# EAGLE library part AT27C256R-70PU (library SamacSys_Parts)
MICROCHIP - AT27C256R-70PU - EPROM, One Time Programmable, 70 ns, 32K x 8bit, 256 Kbit, 4.5 V to 5.5 V, DIP-28 Source: Datasheet <http://ww1.microchip.com/downloads/en/DeviceDoc/doc0014.pdf>
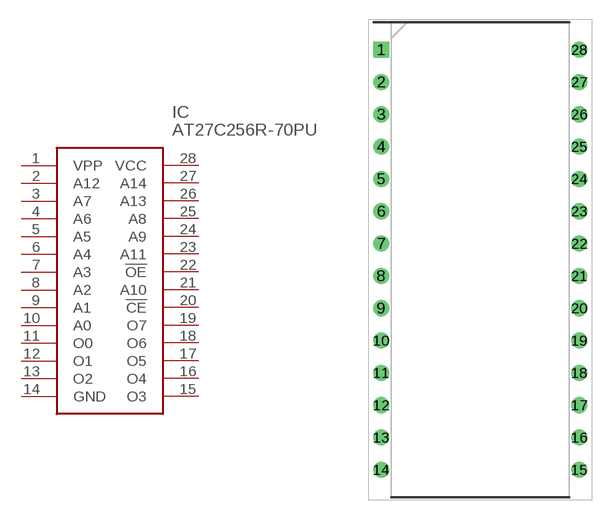
[diagram p198: symbol with the pads of DIP1556W56P254L3702H483Q28N; footprint DIP1556W56P254L3702H483Q28N]

Designator prefix IC

## AT27C256R-70PU (DESCRIPTION: MICROCHIP - AT27C256R-70PU - EPROM, One Time Programmable, 70 ns, 32K x 8bit, 256 Kbit, 4.5 V to 5.5 V, DIP-28; HEIGHT: 4.826mm; MANUFACTURER_NAME: Microchip; MANUFACTURER_PART_NUMBER: AT27C256R-70PU; MOUSER_PART_NUMBER: 556-AT27C256R70PU; MOUSER_PRICE-STOCK: https://www.mouser.co.uk/ProductDetail/Microchip-Technology-Atmel/AT27C256R-70PU?qs=lURXKZrvvXerj2LFnnLrrA%3D%3D)  [DIP1556W56P254L3702H483Q28N]
1  VPP
2  A12
3  A7
4  A6
5  A5
6  A4
7  A3
8  A2
9  A1
10  A0
11  O0
12  O1
13  O2
14  GND
15  O3
16  O4
17  O5
18  O6
19  O7
20  !CE
21  A10
22  !OE
23  A11
24  A9
25  A8
26  A13
27  A14
28  VCC

## Footprint DIP1556W56P254L3702H483Q28N (pad centres in mm)
28P6 1
drill 0.759 pad 1.159 square: 1 -7.779,16.51
drill 0.759 pad 1.159: 2 -7.779,13.97; 3 -7.779,11.43; 4 -7.779,8.89; 5 -7.779,6.35; 6 -7.779,3.81; 7 -7.779,1.27; 8 -7.779,-1.27; 9 -7.779,-3.81; 10 -7.779,-6.35; 11 -7.779,-8.89; 12 -7.779,-11.43; 13 -7.779,-13.97; 14 -7.779,-16.51; 15 7.779,-16.51; 16 7.779,-13.97; 17 7.779,-11.43; 18 7.779,-8.89; 19 7.779,-6.35; 20 7.779,-3.81; 21 7.779,-1.27; 22 7.779,1.27; 23 7.779,3.81; 24 7.779,6.35; 25 7.779,8.89; 26 7.779,11.43; 27 7.779,13.97; 28 7.779,16.51